# Altium schematic symbol library 5W_51.5K.SchLib: 1 symbol
Pins are listed as number, name and electrical type; pins without a type are passive.

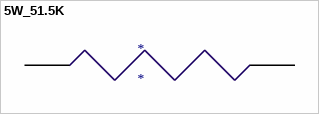
[diagram p0: symbol 5W_51.5K]

## 5W_51.5K
designator *
footprint 5W_51.5K
pins: 0, 1